# Altium schematic symbol library CONMMCX013.SCHLIB: 1 symbol
Pins are listed as number, name and electrical type; pins without a type are passive.

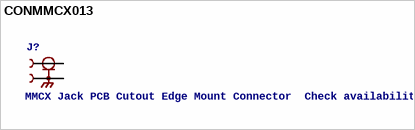
[diagram p0: symbol CONMMCX013]

## CONMMCX013
designator J?, comment MMCX Jack PCB Cutout Edge Mount Connector  Check availability
GateName_1: G$1; SymbolName_1: CONMMCX013; MF: Linx Technologies Inc.; LibraryName: CONMMCX013; DeviceSetName: CONMMCX013; Purchase-URL: https://pricing.snapeda.com/search/part/CONMMCX013/?ref=eda; Package: -- Linx Technologies Inc.; MP: CONMMCX013; Availability: In Stock; Price: None
footprint LINX_CONMMCX013
pins: 1, 2